# EAGLE library part OPA861 (library OTAs)
Wide bandwidth OTA The OPA861 operates as an ideal, bi-directional transistor, with the transconductance adjustable through an external resistor. - 80 MHz open-loop bandwidth - 900V/µS slew rate - High transconductance (95 mMho) Manufactured by Texas Instruments.
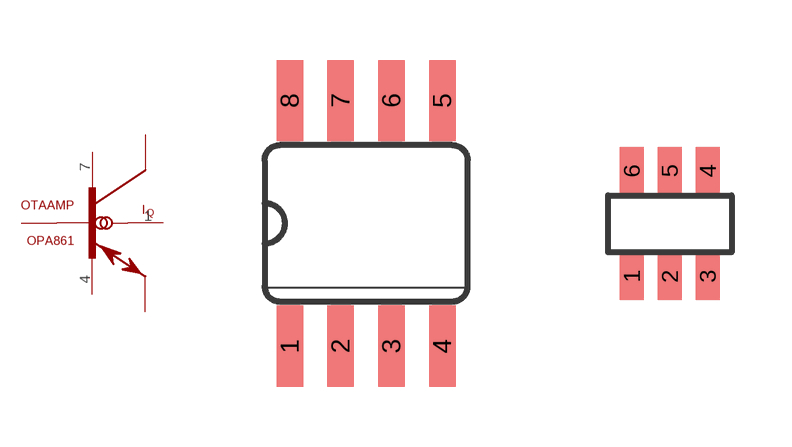
[diagram p6: symbol with the pads of SO08; footprints SO08, SOT23-6]

Designator prefix OTA; gates AMP=DIAMOND-TRANSISTOR PWR=POWERPIN

## OPA861ID  [SO08]
1  AMP:IQ
2  AMP:E
3  AMP:B
4  PWR:VEE  pwr
7  PWR:VCC  pwr
8  AMP:C

## OPA861IDBVT  [SOT23-6]
1  AMP:IQ
2  PWR:VEE  pwr
3  AMP:B
4  AMP:E
5  AMP:C
6  PWR:VCC  pwr

## Footprint SO08 (pad centres in mm)
Small Outline package 150 mil
smd 0.66 x 2.032: 1 -1.905,-3.073; 2 -0.635,-3.073; 3 0.635,-3.073; 4 1.905,-3.073; 5 1.905,3.073; 6 0.635,3.073; 7 -0.635,3.073; 8 -1.905,3.073

## Footprint SOT23-6 (pad centres in mm)
Small Outline Transistor, 5 lead
smd 0.6 x 1.2: 1 -0.95,-1.306; 2 0,-1.306; 3 0.95,-1.306; 4 0.95,1.331; 5 0,1.331; 6 -0.95,1.331